# Altium schematic symbol library 43030-0003.Schlib: 1 symbol
Pins are listed as number, name and electrical type; pins without a type are passive.

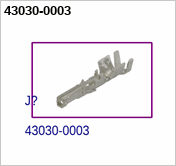
[diagram p0: symbol 43030-0003]

## 43030-0003
designator J?